# Altium footprint library DAQ.PcbLib: 37 footprints (part 3 of 3)
Each footprint in its own frame and in the unit in brackets; x right, y up, seen from the top. Pads: shape width x height; smd on the part's side, far side on the other; paste and mask are expansions set on the pad; w line width, h text height; cw(c..) or ccw(c..) is an arc to the next point about the centre after c.
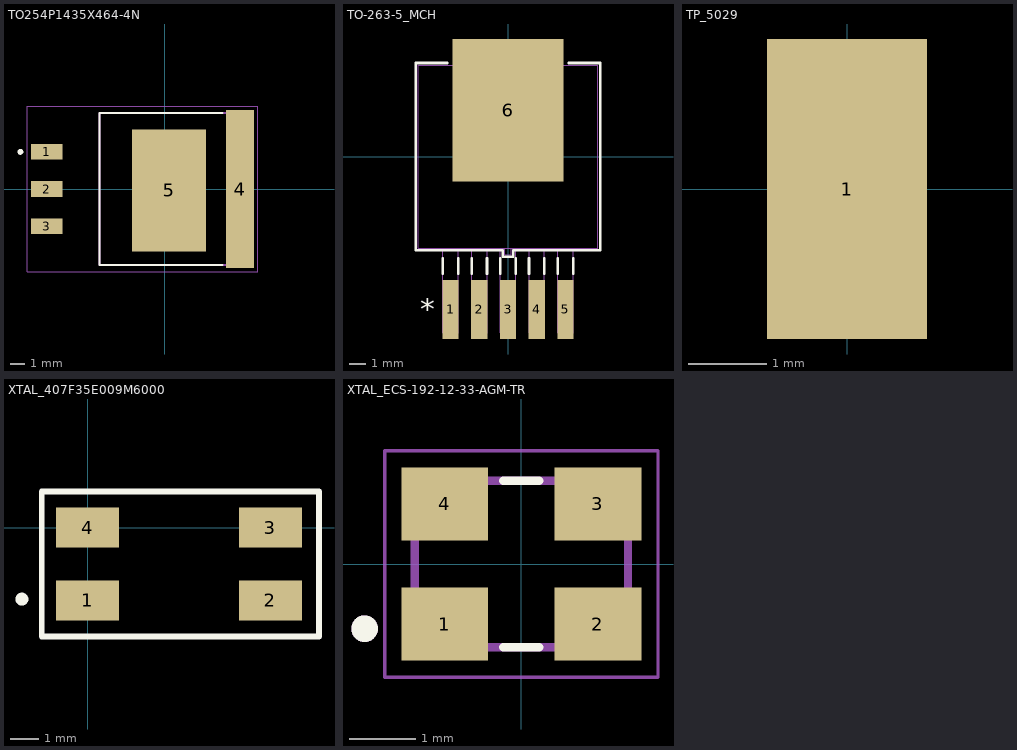
[diagram p2: the footprints below, top view; thin cyan lines are the x and y axes]

## TO254P1435X464-4N [mm]
pads (5):
  rect 2.16x1.07 smd: 1(-8.065,2.54) 2(-8.065,0) 3(-8.065,-2.54)
  rect 1.91x10.8 smd: 4(5.15,0)
  rect 5.08x8.33 smd: 5(0.3,-0.1)
Top Overlay:
  circle w0.2: c-9.86,2.54 r0.1
  lines w0.127: 3.941,-5.205 -4.445,-5.205 -4.445,5.205 3.941,5.205
Mechanical 4:
  circle w0.2: c-8.065,2.54 r0.1
  circle w0.2: c-8.065,2.54 r0.1
  lines w0.127: -4.445,-5.205 -4.445,5.205 ; -4.445,-5.205 4.445,-5.205 ; -4.445,-5.205 -4.445,5.205 ; -4.445,-5.205 4.445,-5.205 ; -4.445,5.205 4.445,5.205 ; -4.445,5.205 4.445,5.205 ; 4.445,-5.205 4.445,5.205 ; 4.445,-5.205 4.445,5.205
Mechanical 16:
  lines w0.05: -9.395,-5.65 -9.395,5.65 6.355,5.65 6.355,-5.65 -9.395,-5.65

## TO-263-5_MCH [mil]
pads (6):
  rect 38x138 smd paste+0 mask+0: 1(-134,-356.5) 2(-67,-356.5) 3(0,-356.5) 4(67,-356.5) 5(134,-356.5)
  rect 258x333 smd paste+0 mask+0: 6(0,108)
Top Overlay:
  lines w6: -152,-273.5 -152,-237.5 ; -142.1,218.5 -215,218.5 -215,-218.5 -12.5,-218.5 -12.5,-233.5 12.5,-233.5 12.5,-218.5 215,-218.5 215,218.5 142.1,218.5 ; -116,-273.5 -116,-237.5 ; -85,-273.5 -85,-237.5 ; -49,-273.5 -49,-237.5 ; -18,-273.5 -18,-237.5 ; 18,-273.5 18,-237.5 ; 49,-273.5 49,-237.5 ; 85,-273.5 85,-237.5 ; 116,-273.5 116,-237.5 ; 152,-273.5 152,-237.5
  text "*" at -205,-381.5 h50
Mechanical 13:
  lines w1: -210,-213.5 210,-213.5 210,213.5 -210,213.5 -210,-213.5 ; -152,-411.5 -152,-213.5 -116,-213.5 -116,-411.5 -152,-411.5 ; -85,-411.5 -85,-213.5 -49,-213.5 -49,-411.5 -85,-411.5 ; -18,-411.5 -18,-213.5 18,-213.5 18,-411.5 -18,-411.5 ; -7.5,-228.5 -7.5,-213.5 7.5,-213.5 7.5,-228.5 -7.5,-228.5 ; 49,-411.5 49,-213.5 85,-213.5 85,-411.5 49,-411.5 ; 116,-411.5 116,-213.5 152,-213.5 152,-411.5 116,-411.5
  text "*" at -146.5,-228.5 h50
3D body "TO-263-5_MCH.step": height 181.1, standoff -2.01, extent -210,-411.5 210,253.5

## TP_5029 [mil]
pads (1):
  rect 80x150 smd: 1(0,0)
3D body "TP5029.STEP": height 90.5, standoff 0.5, extent -40,-74.99 40,75

## XTAL_407F35E009M6000 [mm]
pads (4):
  rect 2.2x1.4 smd: 1(0,-2.54) 2(6.4,-2.54) 3(6.4,0) 4(0,0)
Top Overlay:
  circle w0.254: c-2.3,-2.5 r0.1
  lines w0.2: -1.6,-3.81 8.1,-3.81 8.1,1.27 -1.6,1.27 -1.6,-3.81
3D body "407F35E012M5000.stp": height 1.11, standoff 0.01, extent -0.56,-3.8 6.96,1.2

## XTAL_ECS-192-12-33-AGM-TR [mm]
pads (4):
  rect 1.3x1.1 smd: 1(-1.15,-0.9) 2(1.15,-0.9) 3(1.15,0.9) 4(-1.15,0.9)
Top Overlay:
  circle w0.2: c-2.35,-0.97 r0.1
  lines w0.127: -0.27,-1.25 0.27,-1.25 ; -0.27,1.25 0.27,1.25
Mechanical 4:
  circle w0.2: c-2.35,-0.97 r0.1
  circle w0.2: c-2.35,-0.97 r0.1
  lines w0.127: -1.6,-1.25 -1.6,1.25 ; -1.6,-1.25 1.6,-1.25 ; -1.6,-1.25 -1.6,1.25 ; -1.6,-1.25 1.6,-1.25 ; -1.6,1.25 1.6,1.25 ; -1.6,1.25 1.6,1.25 ; 1.6,-1.25 1.6,1.25 ; 1.6,-1.25 1.6,1.25
Mechanical 16:
  lines w0.05: -2.05,-1.7 -2.05,1.7 2.05,1.7 2.05,-1.7 -2.05,-1.7
3D body "ECS-540-8-33-JTN-TR--3DModel-STEP-56544.STEP": height 0.81, standoff 0.01, extent -1.6,-1.255 1.6,1.245